# EAGLE library part FCI-73725-0110BLF (library keves)
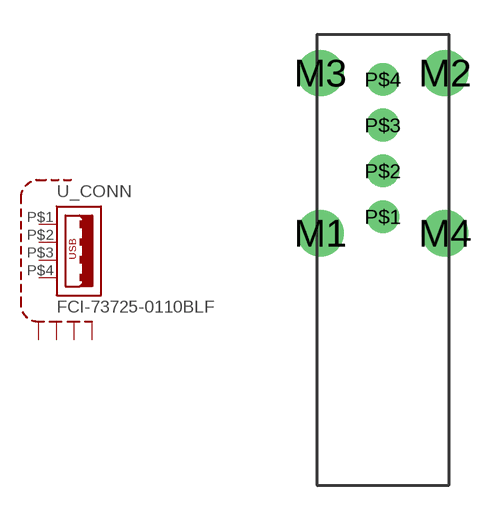
[diagram p15: symbol with the pads of FCI-73725-0110BLF; footprint FCI-73725-0110BLF]

Designator prefix -; gates _CONN=USB_HOST SHIELD=SHIELD4

## FCI-73725-0110BLF  [FCI-73725-0110BLF]
M1  SHIELD:S1  pas
M2  SHIELD:S2  pas
M3  SHIELD:S3  pas
M4  SHIELD:S4  pas
P$1  _CONN:1  pas
P$2  _CONN:2  pas
P$3  _CONN:3  pas
P$4  _CONN:4  pas

## Footprint FCI-73725-0110BLF (pad centres in mm)
drill 1.35: M1 -2.72,-6.73; M2 2.72,0.27; M3 -2.72,0.27; M4 2.72,-6.73
drill 0.92: P$1 0,-6; P$2 0,-4; P$3 0,-2; P$4 0,0